# EAGLE library part MINITEK-12-VIE-M-F (library PonLib)
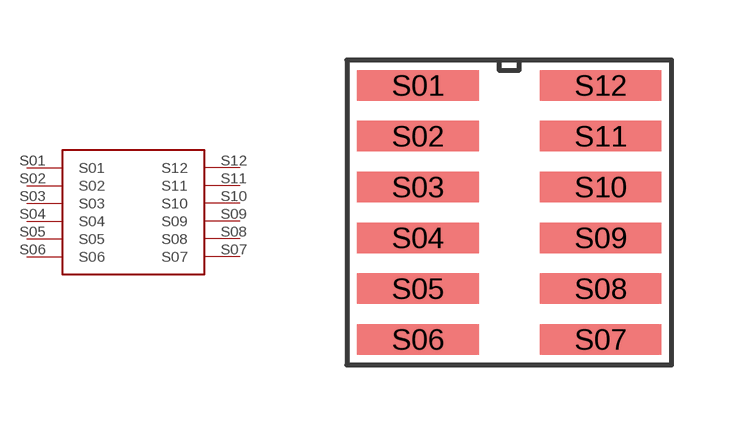
[diagram p3: symbol with the pads of MINITEL-12-VIE-MF; footprint MINITEL-12-VIE-MF]

Designator prefix -

## MINITEK-12-VIE-M-F  [MINITEL-12-VIE-MF]
S01  S01
S02  S02
S03  S03
S04  S04
S05  S05
S06  S06
S07  S07
S08  S08
S09  S09
S10  S10
S11  S11
S12  S12

## Footprint MINITEL-12-VIE-MF (pad centres in mm)
smd 3.048 x 0.762: S01 -2.286,3.175; S02 -2.286,1.905; S03 -2.286,0.635; S04 -2.286,-0.635; S05 -2.286,-1.905; S06 -2.286,-3.175; S07 2.286,-3.175; S08 2.286,-1.905; S09 2.286,-0.635; S10 2.286,0.635; S11 2.286,1.905; S12 2.286,3.175